# EAGLE library part 7SEG_DISP_KCSA04-123 (library 000_nl2)
Kingbright 7-Segment LED Display, 1, 10.16 mm Surface Mount 7-Segment LED Display, Mechanically Rugged, 1http://www.farnell.com/datasheets/1776537.pdf, 10.16 mm, Green, Common Anode, 4.1 mcd, 20 mA KCSA04-123 http://uk.farnell.com/kingbright/kcsa04-123/display-seven-segment-10-16mm/dp/2373434 http://www.farnell.com/datasheets/1776537.pdf
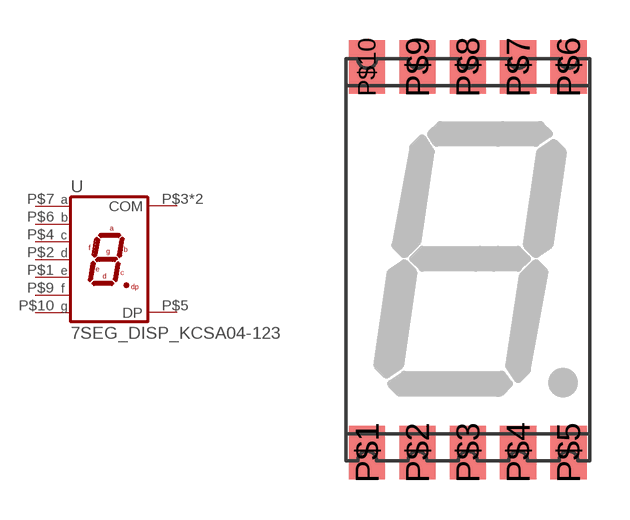
[diagram p24: symbol with the pads of KCSA04-123; footprint KCSA04-123]

Designator prefix -

## 7SEG_DISP_KCSA04-123  [KCSA04-123]
P$1  E  pas
P$2  D  pas
P$3  COM  pas
P$4  C  pas
P$5  DP  pas
P$6  B  pas
P$7  A  pas
P$8  COM  pas
P$9  F  pas
P$10  G  pas

## Footprint KCSA04-123 (pad centres in mm)
KINGBRIGHT LED DISPLAY, NUM 10.16MM Surface Mount 7 Segment KCSA04-123 http://www.farnell.com/datasheets/1776537.pdf
smd 1.35 x 2: P$1 0.79,0.3; P$2 2.67,0.3; P$3 4.55,0.3; P$4 6.43,0.3; P$5 8.31,0.3; P$6 8.31,14.7; P$7 6.43,14.7; P$8 4.55,14.7; P$9 2.67,14.7; P$10 0.79,14.7